# Altium footprint library SnapEDApcb.PcbLib: 1 footprints
Each footprint in its own frame and in the unit in brackets; x right, y up, seen from the top. Pads: shape width x height; smd on the part's side, far side on the other; paste and mask are expansions set on the pad; w line width, h text height; cw(c..) or ccw(c..) is an arc to the next point about the centre after c.
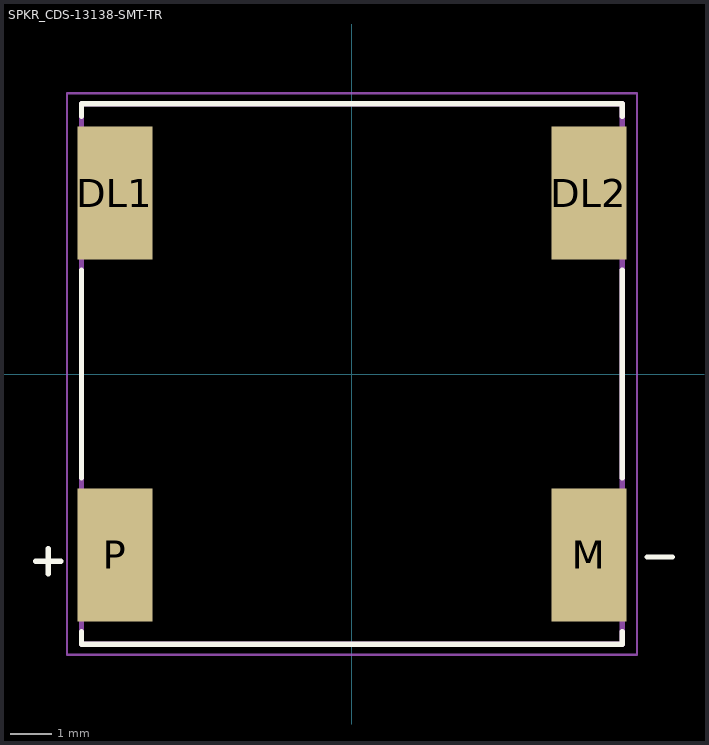
[diagram p0: the footprint, top view; thin cyan lines are the x and y axes]

## SPKR_CDS-13138-SMT-TR [mm]
pads (4):
  rect 1.8x3.2 smd: DL1(-5.7,4.35) DL2(5.7,4.35) M(5.7,-4.35) P(-5.7,-4.35)
Top Overlay:
  lines w0.127: -7.6,-4.5 -7,-4.5 ; -7.3,-4.8 -7.3,-4.2 ; -6.5,-6.2 -6.5,-6.5 6.5,-6.5 6.5,-6.2 ; -6.5,-2.5 -6.5,2.5 ; -6.5,6.2 -6.5,6.5 6.5,6.5 6.5,6.2 ; 6.5,-2.5 6.5,2.5 ; 7.1,-4.4 7.7,-4.4
Mechanical 13:
  lines w0.127: -6.5,-6.5 6.5,-6.5 6.5,6.5 -6.5,6.5 -6.5,-6.5
Mechanical 15:
  lines w0.05: -6.85,-6.75 6.85,-6.75 6.85,6.75 -6.85,6.75 -6.85,-6.75